# EAGLE library part 3X2_1.27_THRU (library MTM_untested)
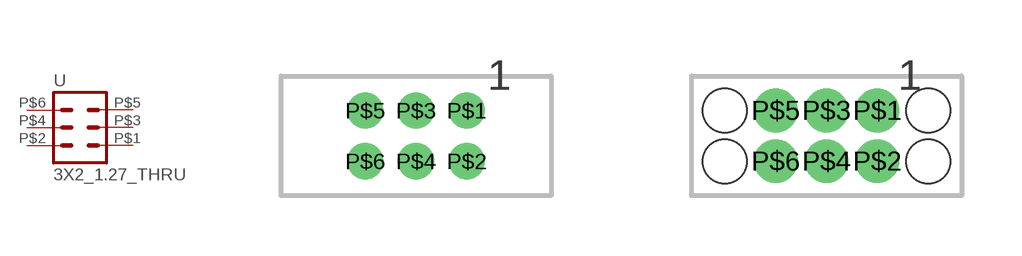
[diagram p9: symbol with the pads of AMPHENOL_2X3_THRU_MINITEK127; footprints AMPHENOL_2X3_THRU_MINITEK127, MILLMAX855-3X2]

Designator prefix -

## 3X2_1.27_THRU  [AMPHENOL_2X3_THRU_MINITEK127]
P$1  1  pas
P$2  2  pas
P$3  3  pas
P$4  4  pas
P$5  5  pas
P$6  6  pas

## 3X2_1.27_THRUPOGO  [MILLMAX855-3X2]
Pads as for AMPHENOL_2X3_THRU_MINITEK127

## Footprint AMPHENOL_2X3_THRU_MINITEK127 (pad centres in mm)
drill 0.4 pad 0.813: P$1 1.27,0.635; P$2 1.27,-0.635; P$3 0,0.635; P$4 0,-0.635; P$5 -1.27,0.635; P$6 -1.27,-0.635

## Footprint MILLMAX855-3X2 (pad centres in mm)
drill 0.584 pad 0.813: P$1 1.27,0.635; P$2 1.27,-0.635; P$3 0,0.635; P$4 0,-0.635; P$5 -1.27,0.635; P$6 -1.27,-0.635
hole 1.1 at -2.54,0.635
hole 1.1 at -2.54,-0.635
hole 1.1 at 2.54,0.635
hole 1.1 at 2.54,-0.635